# EAGLE library part SSW-119-02-S-S (library con-samtec)
THROUGH-HOLE .025" SQ POST SOCKET Source: Samtec SSW.pdf
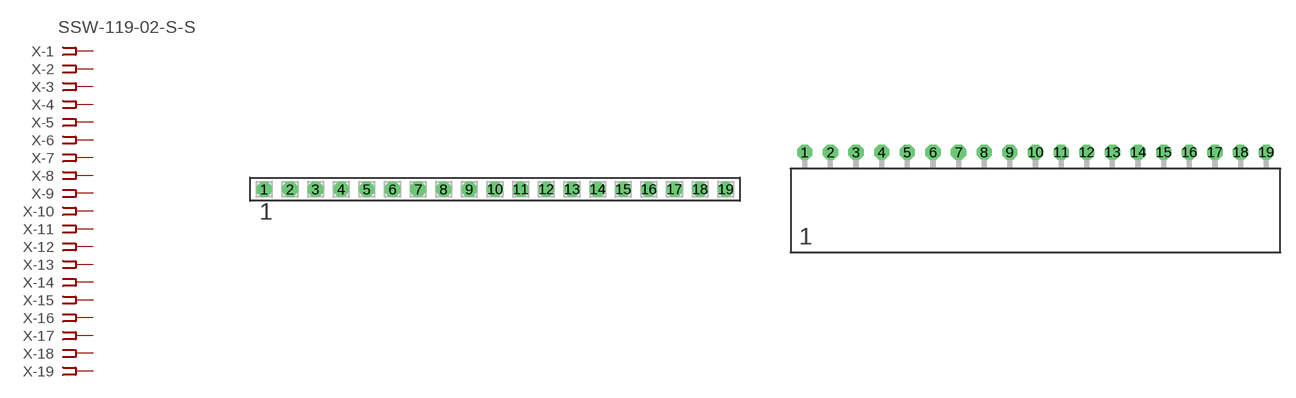
[diagram p85: symbol with the pads of SSW-119-02-S-S; footprints SSW-119-02-S-S, SSW-119-02-S-S-RA]

Designator prefix X; gates -1=FPINV -2=FPIN -3=FPIN -4=FPIN -5=FPIN -6=FPIN -7=FPIN -8=FPIN -9=FPIN -10=FPIN -11=FPIN -12=FPIN -13=FPIN -14=FPIN -15=FPIN -16=FPIN -17=FPIN -18=FPIN -19=FPIN

## SSW-119-02-S-S (MPN: SSW-119-02-S-S; OC_FARNELL: unknown; OC_NEWARK: 11P9625)  [SSW-119-02-S-S]
1  -1:1  pas
2  -2:1  pas
3  -3:1  pas
4  -4:1  pas
5  -5:1  pas
6  -6:1  pas
7  -7:1  pas
8  -8:1  pas
9  -9:1  pas
10  -10:1  pas
11  -11:1  pas
12  -12:1  pas
13  -13:1  pas
14  -14:1  pas
15  -15:1  pas
16  -16:1  pas
17  -17:1  pas
18  -18:1  pas
19  -19:1  pas

## SSW-119-02-S-S-RA (MPN: SSW-119-02-S-S-RA; OC_FARNELL: unknown; OC_NEWARK: 11P9626)  [SSW-119-02-S-S-RA]
Pads as for SSW-119-02-S-S

## Footprint SSW-119-02-S-S (pad centres in mm)
THROUGH-HOLE .025" SQ POST SOCKET Source: Samtec SSW.pdf
drill 1 pad 1.5 octagon: 1 -22.86,0; 2 -20.32,0; 3 -17.78,0; 4 -15.24,0; 5 -12.7,0; 6 -10.16,0; 7 -7.62,0; 8 -5.08,0; 9 -2.54,0; 10 0,0; 11 2.54,0; 12 5.08,0; 13 7.62,0; 14 10.16,0; 15 12.7,0; 16 15.24,0; 17 17.78,0; 18 20.32,0; 19 22.86,0

## Footprint SSW-119-02-S-S-RA (pad centres in mm)
THROUGH-HOLE .025" SQ POST SOCKET Source: Samtec SSW.pdf
drill 1 pad 1.5 octagon: 1 -22.86,1.524; 2 -20.32,1.524; 3 -17.78,1.524; 4 -15.24,1.524; 5 -12.7,1.524; 6 -10.16,1.524; 7 -7.62,1.524; 8 -5.08,1.524; 9 -2.54,1.524; 10 0,1.524; 11 2.54,1.524; 12 5.08,1.524; 13 7.62,1.524; 14 10.16,1.524; 15 12.7,1.524; 16 15.24,1.524; 17 17.78,1.524; 18 20.32,1.524; 19 22.86,1.524